# Altium footprint library VY2472M41Y5VS63V7.PcbLib: 1 footprints
Each footprint in its own frame and in the unit in brackets; x right, y up, seen from the top. Pads: shape width x height; smd on the part's side, far side on the other; paste and mask are expansions set on the pad; w line width, h text height; cw(c..) or ccw(c..) is an arc to the next point about the centre after c.
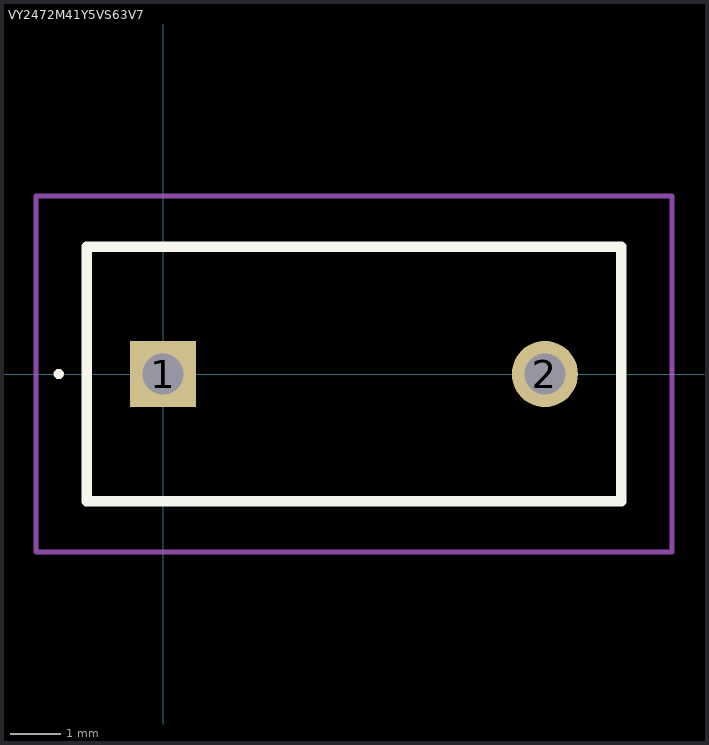
[diagram p0: the footprint, top view; thin cyan lines are the x and y axes]

## VY2472M41Y5VS63V7 [mm]
pads (2):
  rect 1.3x1.3 hole 0.8: 1(0,0)
  round 1.3 hole 0.8: 2(7.5,0)
Top Overlay:
  lines w0.1: -2.1,0 -2.1,0 ; -2.1,0 ccw(c-2.05,0) -2,0 ; -2.1,0 cw(c-2.05,0) -2,0 ; -2,0 -2,0
  lines w0.2: -1.5,-2.5 9,-2.5 9,2.5 -1.5,2.5 -1.5,-2.5
Mechanical 15:
  lines w0.1: -1.5,-2.5 9,-2.5 9,2.5 -1.5,2.5 -1.5,-2.5
Mechanical 20:
  lines w0.1: -2.5,-3.5 10,-3.5 10,3.5 -2.5,3.5 -2.5,-3.5
3D body "VY2472M41Y5VS63V7.stp": height 5.8, standoff -4.65, extent -10,-3.376 10,3.376